# Altium footprint library XH1.25_SMD_母座.PcbLib: 9 footprints
Each footprint in its own frame and in the unit in brackets; x right, y up, seen from the top. Pads: shape width x height; smd on the part's side, far side on the other; paste and mask are expansions set on the pad; w line width, h text height; cw(c..) or ccw(c..) is an arc to the next point about the centre after c.
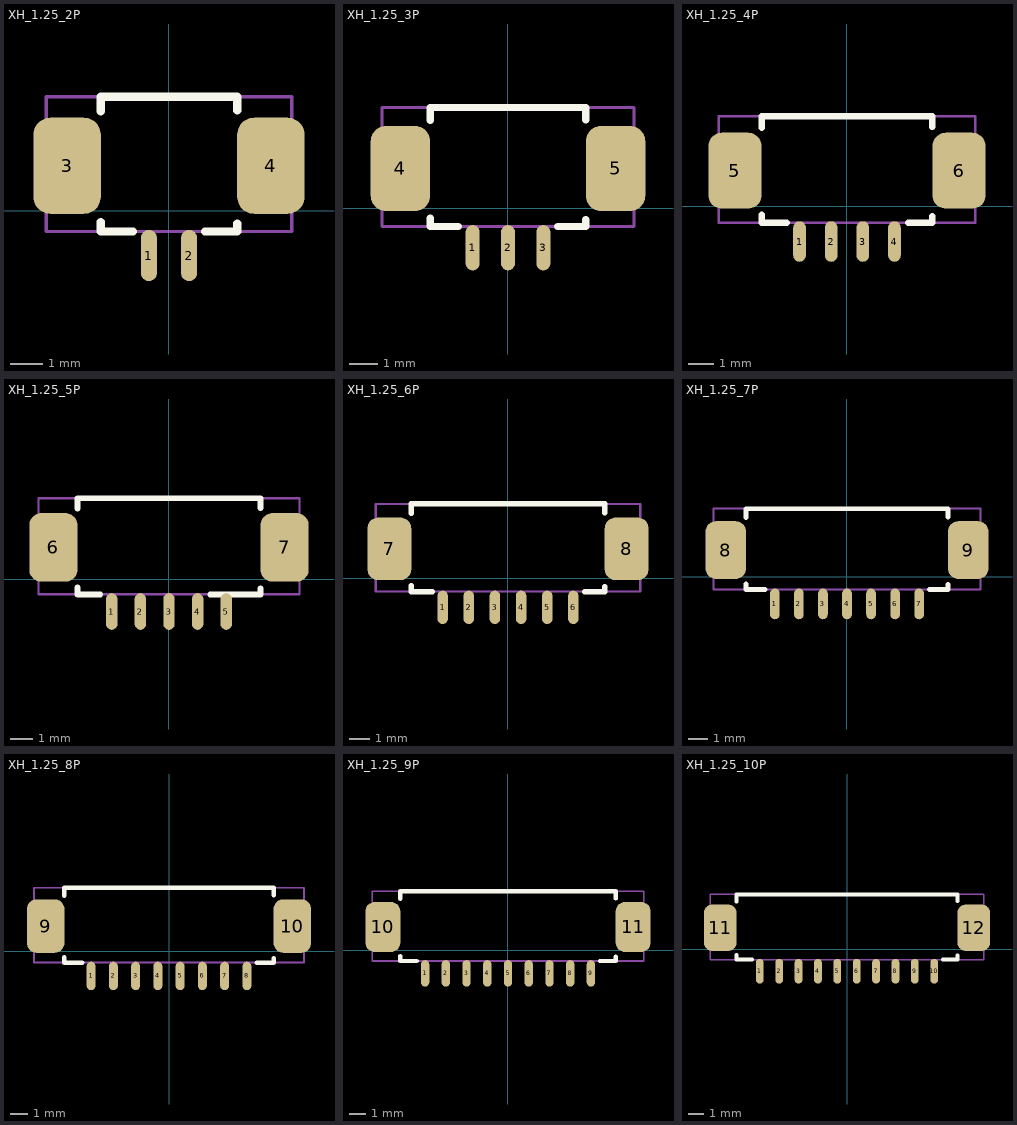
[diagram p0: the footprints below, top view; thin cyan lines are the x and y axes]

## XH_1.25_2P [mm]
pads (4):
  oval 0.5x1.6 smd: 1(-0.625,-1.4) 2(0.625,-1.4)
  rrect50% 2.1x3 smd: 3(-3.175,1.4) 4(3.175,1.4)
Top Overlay:
  lines w0.254: -2.125,-0.35 -2.125,-0.65 -1.125,-0.65 ; -2.125,3.1 -2.125,3.55 2.125,3.55 2.125,3.125 ; 1.125,-0.65 2.125,-0.65 2.125,-0.4
Mechanical 15:
  lines w0.1: -3.825,-0.65 3.825,-0.65 3.825,3.55 -3.825,3.55 -3.825,-0.65

## XH_1.25_3P [mm]
pads (5):
  oval 0.5x1.6 smd: 1(-1.25,-1.4) 2(0,-1.4) 3(1.25,-1.4)
  rrect50% 2.1x3 smd: 4(-3.8,1.4) 5(3.8,1.4)
Top Overlay:
  lines w0.254: -2.75,-0.35 -2.75,-0.65 -1.75,-0.65 ; -2.75,3.1 -2.75,3.55 2.75,3.55 2.75,3.125 ; 1.75,-0.65 2.75,-0.65 2.75,-0.4
Mechanical 15:
  lines w0.1: -4.45,-0.65 -4.45,3.55 4.45,3.55 4.45,-0.65 -4.45,-0.65

## XH_1.25_4P [mm]
pads (6):
  oval 0.5x1.6 smd: 1(-1.875,-1.4) 2(-0.625,-1.4) 3(0.625,-1.4) 4(1.875,-1.4)
  rrect50% 2.1x3 smd: 5(-4.425,1.4) 6(4.425,1.4)
Top Overlay:
  lines w0.254: -3.375,-0.35 -3.375,-0.65 -2.375,-0.65 ; -3.375,3.1 -3.375,3.55 3.375,3.55 3.375,3.125 ; 2.425,-0.65 3.375,-0.65 3.375,-0.4
Mechanical 15:
  lines w0.1: -5.075,-0.65 -5.075,3.55 5.075,3.55 5.075,-0.65 -5.075,-0.65
3D body "XH1.25-4P-SMD.STEP": height 3.5, standoff 0, extent -5.075,-1.65 5.075,3.55

## XH_1.25_5P [mm]
pads (7):
  oval 0.5x1.6 smd: 1(-2.5,-1.4) 2(-1.25,-1.4) 3(0,-1.4) 4(1.25,-1.4) 5(2.5,-1.4)
  rrect50% 2.1x3 smd: 6(-5.05,1.4) 7(5.05,1.4)
Top Overlay:
  lines w0.254: -4,-0.35 -4,-0.65 -3,-0.65 ; -4,3.1 -4,3.55 4,3.55 4,3.125 ; 1.8,-0.65 4,-0.65 4,-0.4
Mechanical 15:
  lines w0.1: -5.7,-0.65 -5.7,3.55 5.7,3.55 5.7,-0.65 -5.7,-0.65

## XH_1.25_6P [mm]
pads (8):
  oval 0.5x1.6 smd: 1(-3.125,-1.4) 2(-1.875,-1.4) 3(-0.625,-1.4) 4(0.625,-1.4) 5(1.875,-1.4) 6(3.125,-1.4)
  rrect50% 2.1x3 smd: 7(-5.675,1.4) 8(5.675,1.4)
Top Overlay:
  lines w0.254: -4.625,-0.35 -4.625,-0.65 -3.625,-0.65 ; -4.625,3.1 -4.625,3.55 4.625,3.55 4.625,3.125 ; 3.675,-0.65 4.625,-0.65 4.625,-0.4
Mechanical 15:
  lines w0.1: -6.325,-0.65 6.325,-0.65 6.325,3.55 -6.325,3.55 -6.325,-0.65
3D body "XH1.25-6P-SMD.STEP": height 3.5, standoff 0, extent -6.325,-1.65 6.325,3.55

## XH_1.25_7P [mm]
pads (9):
  oval 0.5x1.6 smd: 1(-3.75,-1.4) 2(-2.5,-1.4) 3(-1.25,-1.4) 4(0,-1.4) 5(1.25,-1.4) 6(2.5,-1.4) 7(3.75,-1.4)
  rrect50% 2.1x3 smd: 8(-6.3,1.4) 9(6.3,1.4)
Top Overlay:
  lines w0.254: -5.25,-0.35 -5.25,-0.65 -4.25,-0.65 ; -5.25,3.1 -5.25,3.55 5.25,3.55 5.25,3.125 ; 4.3,-0.65 5.25,-0.65 5.25,-0.4
Mechanical 15:
  lines w0.1: -6.95,-0.65 6.95,-0.65 6.95,3.55 -6.95,3.55 -6.95,-0.65

## XH_1.25_8P [mm]
pads (10):
  oval 0.5x1.6 smd: 1(-4.375,-1.4) 2(-3.125,-1.4) 3(-1.875,-1.4) 4(-0.625,-1.4) 5(0.625,-1.4) 6(1.875,-1.4) 7(3.125,-1.4) 8(4.375,-1.4)
  rrect50% 2.1x3 smd: 9(-6.925,1.4) 10(6.925,1.4)
Top Overlay:
  lines w0.254: -5.875,-0.35 -5.875,-0.65 -4.875,-0.65 ; -5.875,3.1 -5.875,3.55 5.875,3.55 5.875,3.125 ; 4.925,-0.65 5.875,-0.65 5.875,-0.4
Mechanical 15:
  lines w0.1: -7.575,-0.65 7.575,-0.65 7.575,3.55 -7.575,3.55 -7.575,-0.65
3D body "XH1.25-8P-SMD.STEP": height 3.5, standoff 0, extent -7.575,-1.65 7.575,3.55

## XH_1.25_9P [mm]
pads (11):
  oval 0.5x1.6 smd: 1(-5,-1.4) 2(-3.75,-1.4) 3(-2.5,-1.4) 4(-1.25,-1.4) 5(0,-1.4) 6(1.25,-1.4) 7(2.5,-1.4) 8(3.75,-1.4) 9(5,-1.4)
  rrect50% 2.1x3 smd: 10(-7.55,1.4) 11(7.55,1.4)
Top Overlay:
  lines w0.254: -6.5,-0.35 -6.5,-0.65 -5.5,-0.65 ; -6.5,3.1 -6.5,3.55 6.5,3.55 6.5,3.125 ; 5.55,-0.65 6.5,-0.65 6.5,-0.4
Mechanical 15:
  lines w0.1: -8.2,-0.65 8.2,-0.65 8.2,3.55 -8.2,3.55 -8.2,-0.65

## XH_1.25_10P [mm]
pads (12):
  oval 0.5x1.6 smd: 1(-5.625,-1.4) 2(-4.375,-1.4) 3(-3.125,-1.4) 4(-1.875,-1.4) 5(-0.625,-1.4) 6(0.625,-1.4) 7(1.875,-1.4) 8(3.125,-1.4) 9(4.375,-1.4) 10(5.625,-1.4)
  rrect50% 2.1x3 smd: 11(-8.175,1.4) 12(8.175,1.4)
Top Overlay:
  lines w0.254: -7.125,-0.35 -7.125,-0.65 -6.125,-0.65 ; -7.125,3.1 -7.125,3.55 7.125,3.55 7.125,3.125 ; 6.175,-0.65 7.125,-0.65 7.125,-0.4
Mechanical 15:
  lines w0.1: -8.825,-0.65 -8.825,3.55 8.825,3.55 8.825,-0.65 -8.825,-0.65